# EAGLE library part LM391X (library ryans-common-components)
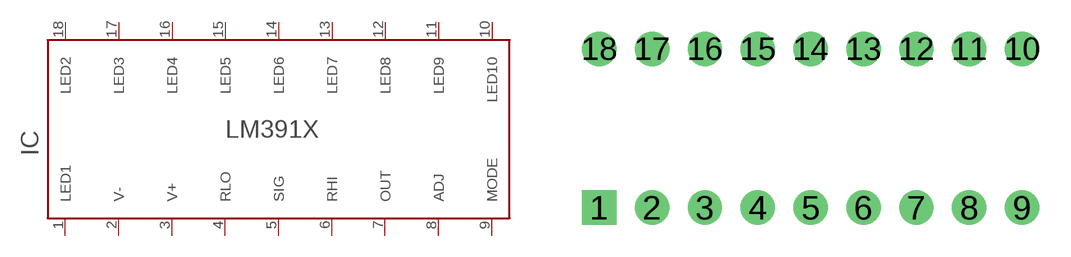
[diagram p6: symbol with the pads of DIP18-SOCKET; footprint DIP18-SOCKET]

Designator prefix IC

## LM391X  [DIP18-SOCKET]
1  LED1
2  V-
3  V+
4  RLO
5  SIG
6  RHI
7  OUT
8  ADJ
9  MODE
10  LED10
11  LED9
12  LED8
13  LED7
14  LED6
15  LED5
16  LED4
17  LED3
18  LED2

## Footprint DIP18-SOCKET (pad centres in mm)
drill 0.8 pad 1.651 square: 1 -10.16,-3.81
drill 0.8 pad 1.651: 2 -7.62,-3.81; 3 -5.08,-3.81; 4 -2.54,-3.81; 5 0,-3.81; 6 2.54,-3.81; 7 5.08,-3.81; 8 7.62,-3.81; 9 10.16,-3.81; 10 10.16,3.81; 11 7.62,3.81; 12 5.08,3.81; 13 2.54,3.81; 14 0,3.81; 15 -2.54,3.81; 16 -5.08,3.81; 17 -7.62,3.81; 18 -10.16,3.81